# EAGLE library part TEST1 (library maholli)
edit this description Auto generated by make-symbol-device-package-bsdl.ulp Rev. 44 Source:
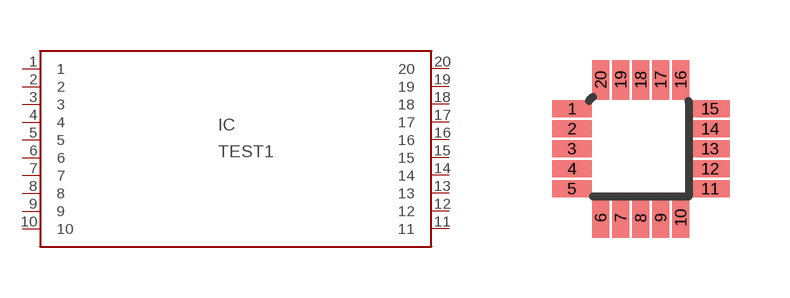
[diagram p13: symbol with the pads of TEST; footprint TEST]

Designator prefix IC

## TEST1  [TEST]
1  1
2  2
3  3
4  4
5  5
6  6
7  7
8  8
9  9
10  10
11  11
12  12
13  13
14  14
15  15
16  16
17  17
18  18
19  19
20  20

## Footprint TEST (pad centres in mm)
TEST Auto generated by make-symbol-device-package-bsdl.ulp Rev. 44
smd 0.99 x 0.42: 1 -1.725,1; 2 -1.725,0.5; 3 -1.725,0; 4 -1.725,-0.5; 5 -1.725,-1; 11 1.725,-1; 12 1.725,-0.5; 13 1.725,0; 14 1.725,0.5; 15 1.725,1
smd 0.42 x 0.99: 6 -1,-1.725; 7 -0.5,-1.725; 8 0,-1.725; 9 0.5,-1.725; 10 1,-1.725; 16 1,1.725; 17 0.5,1.725; 18 0,1.725; 19 -0.5,1.725; 20 -1,1.725